# Altium schematic symbol library SCH - MCU - NUVOTON - NUVOTON NUC505DS13Y.SchLib: 1 symbol
Pins are listed as number, name and electrical type; pins without a type are passive.

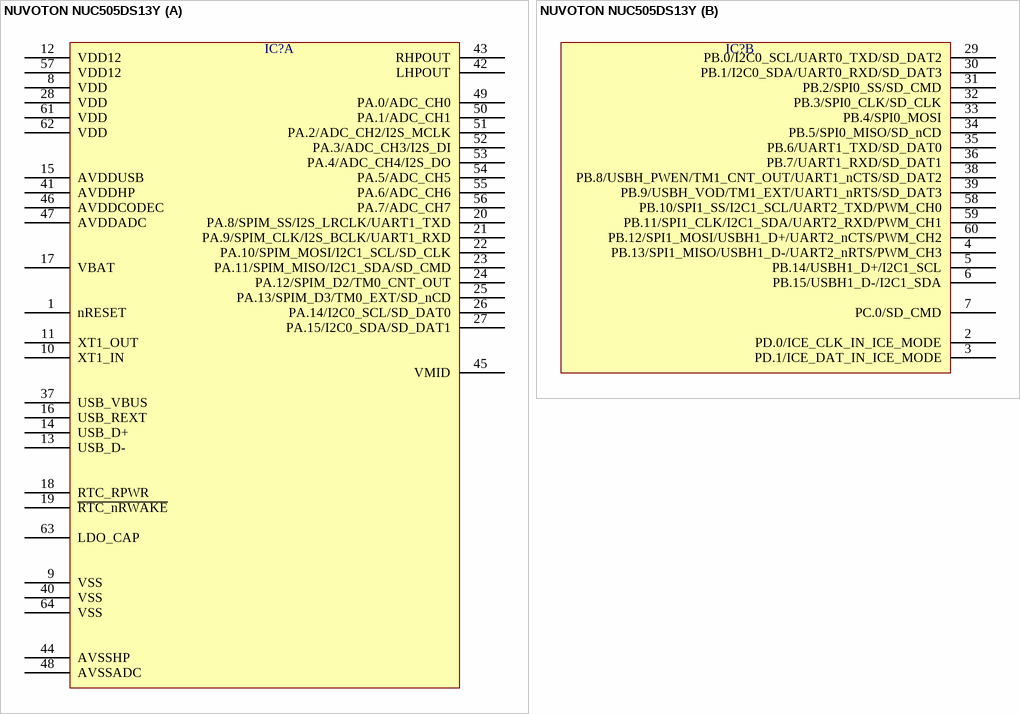
[diagram p0: symbol NUVOTON NUC505DS13Y]

## NUVOTON NUC505DS13Y
designator IC?  (value not drawn)
part A pins: 1 nRESET, 8 VDD, 9 VSS, 10 XT1_IN, 11 XT1_OUT, 12 VDD12, 13 USB_D-, 14 USB_D+, 15 AVDDUSB, 16 USB_REXT, 17 VBAT, 18 RTC_RPWR, 19 ~{RTC_nRWAKE}, 20 PA.8/SPIM_SS/I2S_LRCLK/UART1_TXD, 21 PA.9/SPIM_CLK/I2S_BCLK/UART1_RXD, 22 PA.10/SPIM_MOSI/I2C1_SCL/SD_CLK, 23 PA.11/SPIM_MISO/I2C1_SDA/SD_CMD, 24 PA.12/SPIM_D2/TM0_CNT_OUT, 25 PA.13/SPIM_D3/TM0_EXT/SD_nCD, 26 PA.14/I2C0_SCL/SD_DAT0, 27 PA.15/I2C0_SDA/SD_DAT1, 28 VDD, 37 USB_VBUS, 40 VSS, 41 AVDDHP, 42 LHPOUT, 43 RHPOUT, 44 AVSSHP, 45 VMID, 46 AVDDCODEC, 47 AVDDADC, 48 AVSSADC, 49 PA.0/ADC_CH0, 50 PA.1/ADC_CH1, 51 PA.2/ADC_CH2/I2S_MCLK, 52 PA.3/ADC_CH3/I2S_DI, 53 PA.4/ADC_CH4/I2S_DO, 54 PA.5/ADC_CH5, 55 PA.6/ADC_CH6, 56 PA.7/ADC_CH7, 57 VDD12, 61 VDD, 62 VDD, 63 LDO_CAP, 64 VSS
part B pins: 2 PD.0/ICE_CLK_IN_ICE_MODE, 3 PD.1/ICE_DAT_IN_ICE_MODE, 4 PB.13/SPI1_MISO/USBH1_D-/UART2_nRTS/PWM_CH3, 5 PB.14/USBH1_D+/I2C1_SCL, 6 PB.15/USBH1_D-/I2C1_SDA, 7 PC.0/SD_CMD, 29 PB.0/I2C0_SCL/UART0_TXD/SD_DAT2, 30 PB.1/I2C0_SDA/UART0_RXD/SD_DAT3, 31 PB.2/SPI0_SS/SD_CMD, 32 PB.3/SPI0_CLK/SD_CLK, 33 PB.4/SPI0_MOSI, 34 PB.5/SPI0_MISO/SD_nCD, 35 PB.6/UART1_TXD/SD_DAT0, 36 PB.7/UART1_RXD/SD_DAT1, 38 PB.8/USBH_PWEN/TM1_CNT_OUT/UART1_nCTS/SD_DAT2, 39 PB.9/USBH_VOD/TM1_EXT/UART1_nRTS/SD_DAT3, 58 PB.10/SPI1_SS/I2C1_SCL/UART2_TXD/PWM_CH0, 59 PB.11/SPI1_CLK/I2C1_SDA/UART2_RXD/PWM_CH1, 60 PB.12/SPI1_MOSI/USBH1_D+/UART2_nCTS/PWM_CH2